# EAGLE library part GE12R (library RESISTOR_SIL)
SIL RESISTOR
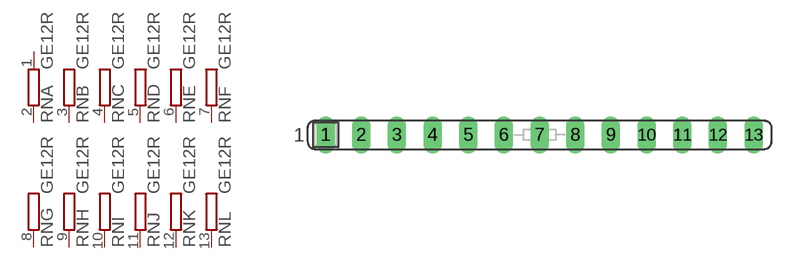
[diagram p26: symbol with the pads of SIL13; footprint SIL13]

Designator prefix RN; gates A=R-NV B=R-NV1 C=R-NV1 D=R-NV1 E=R-NV1 F=R-NV1 G=R-NV1 H=R-NV1 I=R-NV1 J=R-NV1 K=R-NV1 L=R-NV1

## GE12R  [SIL13]
1  A:1  pas
2  A:2  pas
3  B:2  pas
4  C:2  pas
5  D:2  pas
6  E:2  pas
7  F:2  pas
8  G:2  pas
9  H:2  pas
10  I:2  pas
11  J:2  pas
12  K:2  pas
13  L:2  pas

## Footprint SIL13 (pad centres in mm)
Single In Line
drill 0.813 long: 1 -15.24,0; 2 -12.7,0; 3 -10.16,0; 4 -7.62,0; 5 -5.08,0; 6 -2.54,0; 7 0,0; 8 2.54,0; 9 5.08,0; 10 7.62,0; 11 10.16,0; 12 12.7,0; 13 15.24,0